# Altium integrated library TI Power Management Power Modules.IntLib: 831 symbols (part 41 of 44)
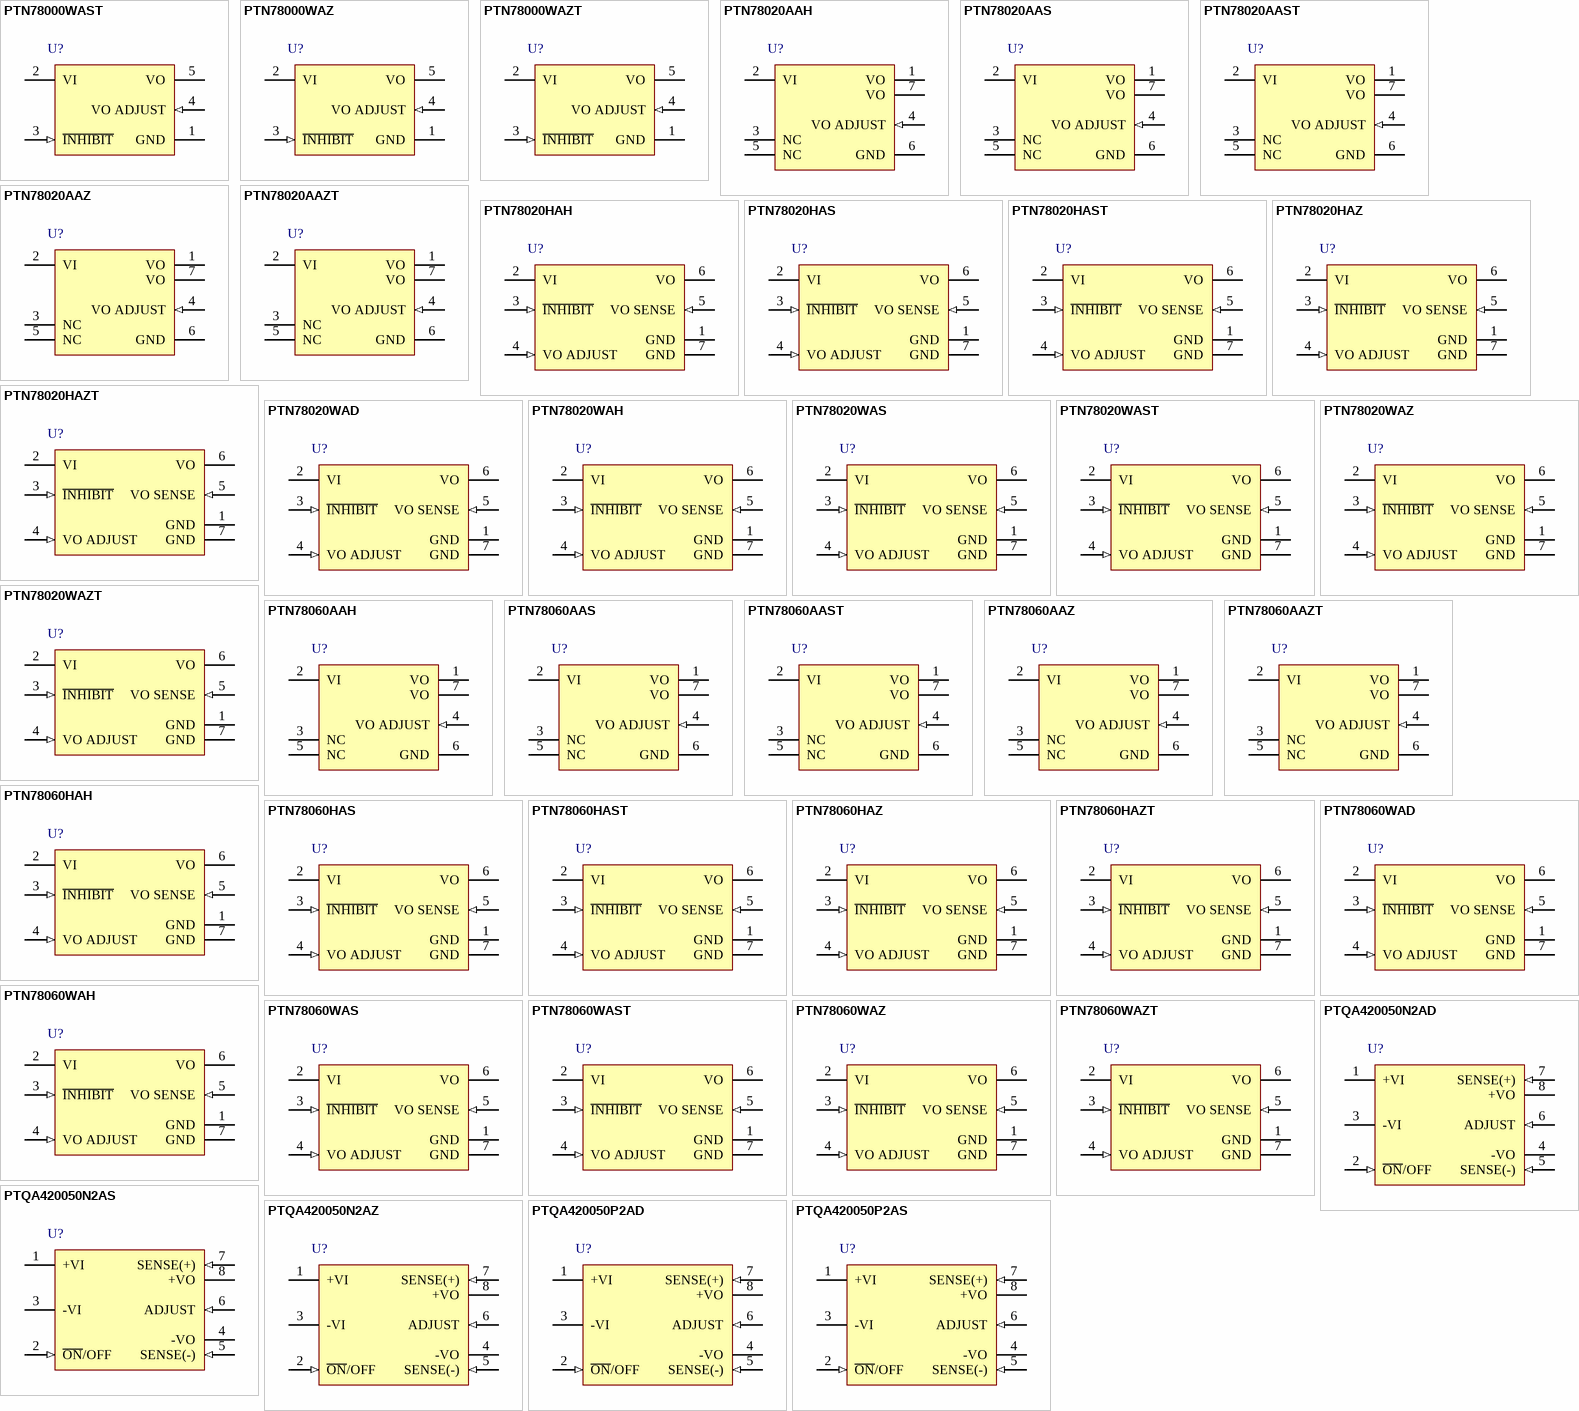
[diagram p63: symbols PTN78000WAST to PTQA420050P2AS]

## PTN78060AAZ
designator U?
3 A, Wide Input Non-Isolated, Wide Negative Output Adjust Module, -40 to 85 degC, 7-pin Module (EUY7), Pb-Free (RoHS); Manufacturer: Texas Instruments; PartNumber: PTN78060AAZ; Iout(Max)(A): 3; Regulated Outputs(#): 1; SubFamily: Non-Isolated POL; Vin(Max)(V): 29; Vin(Min)(V): 9; VO Adjustable: TRUE; Vout(Max)(V): -3; Vout(Min)(V): -15; DatasheetVersion: SLTS245B; PackageVersion: 4205249-2/B; PackageReference: EUY7; PackageDescription: 7-Pin Plastic Special Shape, Body 15.75 x 25.27 mm; Supplier 1: Digi-Key; Supplier Part Number 1: 296-20520-ND; Supplier 2: Farnell; Supplier Part Number 2: 1109707; Supplier 3: Newark; Supplier Part Number 3: 92K8253; Supplier 4: Newark; Supplier Part Number 4: 28K3826; Supplier 5: Mouser; Supplier Part Number 5: 595-PTN78060AAZ; Eco-Plan: Pb-Free (RoHS); Mounting Technology: Surface Mount; ComponentLink1Description: Manufacturer URL; ComponentLink1URL: http://www.ti.com/; ComponentLink2Description: Datasheet; ComponentLink2URL: http://www.ti.com/general/docs/lit/getliterature.tsp?genericPartNumber=PTN78060A&fileType=pdf; ComponentLink3Description: Package Specification; ComponentLink3URL: http://www.ti.com/lit/ml/mpds188/mpds188.pdf; ComponentLink4Description: URL Link1; ComponentLink4URL: Samples URL:http://www.ti.com/product/ptn78060a#samples
footprint TI-EUY7_V (Module, 7-Leads, Body 25.27x15.75mm)
pins: 1 VO (power) "The negative output voltage power connection. It is also the reference for the VO Adjust control input. For proper operation, pins 1 and 7 must be connected.", 2 VI (power) "proper operation, pins 1 and 7 must be connected. The positive input voltage power node to the module, which is referenced to common GND.", 3 NC "This pin is active and must be isolated from any electrical connection.", 4 VO ADJUST (in) "A 1% resistor must be connected between pin 4 and pin 7 to set the output voltage of the module lower than -3 V. If left open-circuit, the output voltage defaults to -3 V. The temperature stability of the resistor should be (See Datasheet)", 5 NC "This pin is active and must be isolated from any electrical connection.", 6 GND (power) "The common ground connection for VI and VO power connections.", 7 VO (power) "The negative output voltage power connection. It is also the reference for the VO Adjust control input. For proper operation, pins 1 and 7 must be connected."

## PTN78060AAZT
designator U?
3 A, Wide Input Non-Isolated, Wide Negative Output Adjust Module, -40 to 85 degC, 7-pin Module (EUY7), Pb-Free (RoHS); Manufacturer: Texas Instruments; PartNumber: PTN78060AAZT; Iout(Max)(A): 3; Regulated Outputs(#): 1; SubFamily: Non-Isolated POL; Vin(Max)(V): 29; Vin(Min)(V): 9; VO Adjustable: TRUE; Vout(Max)(V): -3; Vout(Min)(V): -15; DatasheetVersion: SLTS245B; PackageVersion: 4205249-2/B; PackageReference: EUY7; PackageDescription: 7-Pin Plastic Special Shape, Body 15.75 x 25.27 mm; Supplier 1: Digi-Key; Supplier Part Number 1: PTN78060AAZT-ND; Supplier 2: Newark; Supplier Part Number 2: 28K3827; Supplier 3: Mouser; Supplier Part Number 3: 595-PTN78060AAZT; Eco-Plan: Pb-Free (RoHS); Mounting Technology: Surface Mount; ComponentLink1Description: Manufacturer URL; ComponentLink1URL: http://www.ti.com/; ComponentLink2Description: Datasheet; ComponentLink2URL: http://www.ti.com/general/docs/lit/getliterature.tsp?genericPartNumber=PTN78060A&fileType=pdf; ComponentLink3Description: Package Specification; ComponentLink3URL: http://www.ti.com/lit/ml/mpds188/mpds188.pdf; ComponentLink4Description: URL Link1; ComponentLink4URL: Samples URL:http://www.ti.com/product/ptn78060a#samples
footprint TI-EUY7_V (Module, 7-Leads, Body 25.27x15.75mm)
pins: 1 VO (power) "The negative output voltage power connection. It is also the reference for the VO Adjust control input. For proper operation, pins 1 and 7 must be connected.", 2 VI (power) "proper operation, pins 1 and 7 must be connected. The positive input voltage power node to the module, which is referenced to common GND.", 3 NC "This pin is active and must be isolated from any electrical connection.", 4 VO ADJUST (in) "A 1% resistor must be connected between pin 4 and pin 7 to set the output voltage of the module lower than -3 V. If left open-circuit, the output voltage defaults to -3 V. The temperature stability of the resistor should be (See Datasheet)", 5 NC "This pin is active and must be isolated from any electrical connection.", 6 GND (power) "The common ground connection for VI and VO power connections.", 7 VO (power) "The negative output voltage power connection. It is also the reference for the VO Adjust control input. For proper operation, pins 1 and 7 must be connected."

## PTN78060HAH
designator U?
3 A, Wide Input Non-Isolated, Wide Output Adjust Module, -40 to 85 degC, 7-pin Module (EUW7), Pb-Free (RoHS); Manufacturer: Texas Instruments; PartNumber: PTN78060HAH; Iout(Max)(A): 3; Regulated Outputs(#): 1; SubFamily: Non-Isolated POL; Vin(Max)(V): 36; Vin(Min)(V): 15; VO Adjustable: TRUE; Vout(Max)(V): 22; Vout(Min)(V): 11.85; DatasheetVersion: SLTS229B; PackageVersion: 4205248-2/B; PackageReference: EUW7; PackageDescription: 7-Pin Plastic Special Shape, Body 15.75 x 25.27 mm; Supplier 1: Digi-Key; Supplier Part Number 1: 296-20521-ND; Supplier 2: Farnell; Supplier Part Number 2: 2114050; Supplier 3: Newark; Supplier Part Number 3: 33K5377; Supplier 4: Mouser; Supplier Part Number 4: 595-PTN78060HAH; Eco-Plan: Pb-Free (RoHS); Mounting Technology: Through Hole; ComponentLink1Description: Manufacturer URL; ComponentLink1URL: http://www.ti.com/; ComponentLink2Description: Datasheet; ComponentLink2URL: http://www.ti.com/general/docs/lit/getliterature.tsp?genericPartNumber=PTN78060H&fileType=pdf; ComponentLink3Description: Package Specification; ComponentLink3URL: http://www.ti.com/litv/pdf/mpds187; ComponentLink4Description: URL Link1; ComponentLink4URL: Samples URL:http://www.ti.com/product/ptn78060h#samples
footprint TI-EUW7_V (Module, 7-Leads, Body 25.27x15.75mm)
pins: 1 GND (power) "This is the common ground connection for the VI and VO power connections. It is also the 0-VDC reference for the Inhibit and VO Adjust control inputs.", 2 VI (power) "The positive input voltage power node to the module, which is referenced to common GND.", 3 ~{INHIBIT} (in) "The Inhibit pin is an open-collector/drain active-low input that is referenced to GND. Applying a low-level ground signal to this input disables the module's output and turns off the output voltage. When the Inhibit control (See Datasheet)", 4 VO ADJUST (in) "A 1% resistor must be connected between this pin and GND (pin 7) to set the output voltage. If left V open-circuit, the output voltage is set to a default value. The temperature stability of the resistor should be 100 (See Datasheet)", 5 VO SENSE (in) "The sense input allows the regulation circuit to compensate for voltage drop between the module and the load. For optimum voltage accuracy, VO Sense should be connected to VO. If the sense feature is not used, this pin may (See Datasheet)", 6 VO (power) "The regulated positive power output with respect to the GND node.", 7 GND (power) "This is the common ground connection for the VI and VO power connections. It is also the 0-VDC reference for the Inhibit and VO Adjust control inputs."

## PTN78060HAS
designator U?
3 A, Wide Input Non-Isolated, Wide Output Adjust Module, -40 to 85 degC, 7-pin Module (EUY7); Manufacturer: Texas Instruments; PartNumber: PTN78060HAS; Eco-Plan: TBD; Iout(Max)(A): 3; Regulated Outputs(#): 1; SubFamily: Non-Isolated POL; Vin(Max)(V): 36; Vin(Min)(V): 15; VO Adjustable: TRUE; Vout(Max)(V): 22; Vout(Min)(V): 11.85; DatasheetVersion: SLTS229B; PackageVersion: 4205249-2/B; PackageReference: EUY7; PackageDescription: 7-Pin Plastic Special Shape, Body 15.75 x 25.27 mm; Supplier 1: Digi-Key; Supplier Part Number 1: 296-20522-ND; Supplier 2: Newark; Supplier Part Number 2: 33K5378; Supplier 3: Mouser; Supplier Part Number 3: 595-PTN78060HAS; Mounting Technology: Surface Mount; ComponentLink1Description: Manufacturer URL; ComponentLink1URL: http://www.ti.com/; ComponentLink2Description: Datasheet; ComponentLink2URL: http://www.ti.com/general/docs/lit/getliterature.tsp?genericPartNumber=PTN78060H&fileType=pdf; ComponentLink3Description: Package Specification; ComponentLink3URL: http://www.ti.com/lit/ml/mpds188/mpds188.pdf; ComponentLink4Description: URL Link1; ComponentLink4URL: Samples URL:http://www.ti.com/product/ptn78060h#samples
footprint TI-EUY7_V (Module, 7-Leads, Body 25.27x15.75mm)
pins: 1 GND (power) "This is the common ground connection for the VI and VO power connections. It is also the 0-VDC reference for the Inhibit and VO Adjust control inputs.", 2 VI (power) "The positive input voltage power node to the module, which is referenced to common GND.", 3 ~{INHIBIT} (in) "The Inhibit pin is an open-collector/drain active-low input that is referenced to GND. Applying a low-level ground signal to this input disables the module's output and turns off the output voltage. When the Inhibit control (See Datasheet)", 4 VO ADJUST (in) "A 1% resistor must be connected between this pin and GND (pin 7) to set the output voltage. If left V open-circuit, the output voltage is set to a default value. The temperature stability of the resistor should be 100 (See Datasheet)", 5 VO SENSE (in) "The sense input allows the regulation circuit to compensate for voltage drop between the module and the load. For optimum voltage accuracy, VO Sense should be connected to VO. If the sense feature is not used, this pin may (See Datasheet)", 6 VO (power) "The regulated positive power output with respect to the GND node.", 7 GND (power) "This is the common ground connection for the VI and VO power connections. It is also the 0-VDC reference for the Inhibit and VO Adjust control inputs."

## PTN78060HAST
designator U?
3 A, Wide Input Non-Isolated, Wide Output Adjust Module, -40 to 85 degC, 7-pin Module (EUY7); Manufacturer: Texas Instruments; PartNumber: PTN78060HAST; Eco-Plan: TBD; Iout(Max)(A): 3; Regulated Outputs(#): 1; SubFamily: Non-Isolated POL; Vin(Max)(V): 36; Vin(Min)(V): 15; VO Adjustable: TRUE; Vout(Max)(V): 22; Vout(Min)(V): 11.85; DatasheetVersion: SLTS229B; PackageVersion: 4205249-2/B; PackageReference: EUY7; PackageDescription: 7-Pin Plastic Special Shape, Body 15.75 x 25.27 mm; Supplier 1: Digi-Key; Supplier Part Number 1: PTN78060HAST-ND; Supplier 2: Mouser; Supplier Part Number 2: 595-PTN78060HAST; Mounting Technology: Surface Mount; ComponentLink1Description: Manufacturer URL; ComponentLink1URL: http://www.ti.com/; ComponentLink2Description: Datasheet; ComponentLink2URL: http://www.ti.com/general/docs/lit/getliterature.tsp?genericPartNumber=PTN78060H&fileType=pdf; ComponentLink3Description: Package Specification; ComponentLink3URL: http://www.ti.com/lit/ml/mpds188/mpds188.pdf; ComponentLink4Description: URL Link1; ComponentLink4URL: Samples URL:http://www.ti.com/product/ptn78060h#samples
footprint TI-EUY7_V (Module, 7-Leads, Body 25.27x15.75mm)
pins: 1 GND (power) "This is the common ground connection for the VI and VO power connections. It is also the 0-VDC reference for the Inhibit and VO Adjust control inputs.", 2 VI (power) "The positive input voltage power node to the module, which is referenced to common GND.", 3 ~{INHIBIT} (in) "The Inhibit pin is an open-collector/drain active-low input that is referenced to GND. Applying a low-level ground signal to this input disables the module's output and turns off the output voltage. When the Inhibit control (See Datasheet)", 4 VO ADJUST (in) "A 1% resistor must be connected between this pin and GND (pin 7) to set the output voltage. If left V open-circuit, the output voltage is set to a default value. The temperature stability of the resistor should be 100 (See Datasheet)", 5 VO SENSE (in) "The sense input allows the regulation circuit to compensate for voltage drop between the module and the load. For optimum voltage accuracy, VO Sense should be connected to VO. If the sense feature is not used, this pin may (See Datasheet)", 6 VO (power) "The regulated positive power output with respect to the GND node.", 7 GND (power) "This is the common ground connection for the VI and VO power connections. It is also the 0-VDC reference for the Inhibit and VO Adjust control inputs."

## PTN78060HAZ
designator U?
3 A, Wide Input Non-Isolated, Wide Output Adjust Module, -40 to 85 degC, 7-pin Module (EUY7), Pb-Free (RoHS); Manufacturer: Texas Instruments; PartNumber: PTN78060HAZ; Iout(Max)(A): 3; Regulated Outputs(#): 1; SubFamily: Non-Isolated POL; Vin(Max)(V): 36; Vin(Min)(V): 15; VO Adjustable: TRUE; Vout(Max)(V): 22; Vout(Min)(V): 11.85; DatasheetVersion: SLTS229B; PackageVersion: 4205249-2/B; PackageReference: EUY7; PackageDescription: 7-Pin Plastic Special Shape, Body 15.75 x 25.27 mm; Supplier 1: Digi-Key; Supplier Part Number 1: 296-19759-ND; Supplier 2: Farnell; Supplier Part Number 2: 1109709; Supplier 3: Newark; Supplier Part Number 3: 92K8254; Supplier 4: Newark; Supplier Part Number 4: 33K5380; Supplier 5: Mouser; Supplier Part Number 5: 595-PTN78060HAZ; Eco-Plan: Pb-Free (RoHS); Mounting Technology: Surface Mount; ComponentLink1Description: Manufacturer URL; ComponentLink1URL: http://www.ti.com/; ComponentLink2Description: Datasheet; ComponentLink2URL: http://www.ti.com/general/docs/lit/getliterature.tsp?genericPartNumber=PTN78060H&fileType=pdf; ComponentLink3Description: Package Specification; ComponentLink3URL: http://www.ti.com/lit/ml/mpds188/mpds188.pdf; ComponentLink4Description: URL Link1; ComponentLink4URL: Samples URL:http://www.ti.com/product/ptn78060h#samples
footprint TI-EUY7_V (Module, 7-Leads, Body 25.27x15.75mm)
pins: 1 GND (power) "This is the common ground connection for the VI and VO power connections. It is also the 0-VDC reference for the Inhibit and VO Adjust control inputs.", 2 VI (power) "The positive input voltage power node to the module, which is referenced to common GND.", 3 ~{INHIBIT} (in) "The Inhibit pin is an open-collector/drain active-low input that is referenced to GND. Applying a low-level ground signal to this input disables the module's output and turns off the output voltage. When the Inhibit control (See Datasheet)", 4 VO ADJUST (in) "A 1% resistor must be connected between this pin and GND (pin 7) to set the output voltage. If left V open-circuit, the output voltage is set to a default value. The temperature stability of the resistor should be 100 (See Datasheet)", 5 VO SENSE (in) "The sense input allows the regulation circuit to compensate for voltage drop between the module and the load. For optimum voltage accuracy, VO Sense should be connected to VO. If the sense feature is not used, this pin may (See Datasheet)", 6 VO (power) "The regulated positive power output with respect to the GND node.", 7 GND (power) "This is the common ground connection for the VI and VO power connections. It is also the 0-VDC reference for the Inhibit and VO Adjust control inputs."

## PTN78060HAZT
designator U?
3 A, Wide Input Non-Isolated, Wide Output Adjust Module, -40 to 85 degC, 7-pin Module (EUY7), Pb-Free (RoHS); Manufacturer: Texas Instruments; PartNumber: PTN78060HAZT; Iout(Max)(A): 3; Regulated Outputs(#): 1; SubFamily: Non-Isolated POL; Vin(Max)(V): 36; Vin(Min)(V): 15; VO Adjustable: TRUE; Vout(Max)(V): 22; Vout(Min)(V): 11.85; DatasheetVersion: SLTS229B; PackageVersion: 4205249-2/B; PackageReference: EUY7; PackageDescription: 7-Pin Plastic Special Shape, Body 15.75 x 25.27 mm; Supplier 1: Digi-Key; Supplier Part Number 1: PTN78060HAZT-ND; Supplier 2: Mouser; Supplier Part Number 2: 595-PTN78060HAZT; Eco-Plan: Pb-Free (RoHS); Mounting Technology: Surface Mount; ComponentLink1Description: Manufacturer URL; ComponentLink1URL: http://www.ti.com/; ComponentLink2Description: Datasheet; ComponentLink2URL: http://www.ti.com/general/docs/lit/getliterature.tsp?genericPartNumber=PTN78060H&fileType=pdf; ComponentLink3Description: Package Specification; ComponentLink3URL: http://www.ti.com/lit/ml/mpds188/mpds188.pdf; ComponentLink4Description: URL Link1; ComponentLink4URL: Samples URL:http://www.ti.com/product/ptn78060h#samples
footprint TI-EUY7_V (Module, 7-Leads, Body 25.27x15.75mm)
pins: 1 GND (power) "This is the common ground connection for the VI and VO power connections. It is also the 0-VDC reference for the Inhibit and VO Adjust control inputs.", 2 VI (power) "The positive input voltage power node to the module, which is referenced to common GND.", 3 ~{INHIBIT} (in) "The Inhibit pin is an open-collector/drain active-low input that is referenced to GND. Applying a low-level ground signal to this input disables the module's output and turns off the output voltage. When the Inhibit control (See Datasheet)", 4 VO ADJUST (in) "A 1% resistor must be connected between this pin and GND (pin 7) to set the output voltage. If left V open-circuit, the output voltage is set to a default value. The temperature stability of the resistor should be 100 (See Datasheet)", 5 VO SENSE (in) "The sense input allows the regulation circuit to compensate for voltage drop between the module and the load. For optimum voltage accuracy, VO Sense should be connected to VO. If the sense feature is not used, this pin may (See Datasheet)", 6 VO (power) "The regulated positive power output with respect to the GND node.", 7 GND (power) "This is the common ground connection for the VI and VO power connections. It is also the 0-VDC reference for the Inhibit and VO Adjust control inputs."

## PTN78060WAD
designator U?
3 A, Wide-Input, Adjustable Switching Regulator Module, -40 to 85 degC, 7-pin Module (EUW7), Pb-Free (RoHS); Manufacturer: Texas Instruments; PartNumber: PTN78060WAD; Iout(Max)(A): 3; Regulated Outputs(#): 1; SubFamily: Non-Isolated POL; Vin(Max)(V): 36; Vin(Min)(V): 7; VO Adjustable: TRUE; Vout(Max)(V): 12.6; Vout(Min)(V): 2.5; DatasheetVersion: SLTS229B; PackageVersion: 4205248-2/B; PackageReference: EUW7; PackageDescription: 7-Pin Plastic Special Shape, Body 15.75 x 25.27 mm; Supplier 1: Digi-Key; Supplier Part Number 1: 296-32723-ND; Supplier 2: Farnell; Supplier Part Number 2: 1109703; Supplier 3: Newark; Supplier Part Number 3: 58K6016; Supplier 4: Newark; Supplier Part Number 4: 92K8255; Supplier 5: Mouser; Supplier Part Number 5: 595-PTN78060WAD; Eco-Plan: Pb-Free (RoHS); Mounting Technology: Through Hole; ComponentLink1Description: Manufacturer URL; ComponentLink1URL: http://www.ti.com/; ComponentLink2Description: Datasheet; ComponentLink2URL: http://www.ti.com/general/docs/lit/getliterature.tsp?genericPartNumber=PTN78060W&fileType=pdf; ComponentLink3Description: Package Specification; ComponentLink3URL: http://www.ti.com/litv/pdf/mpds187; ComponentLink4Description: URL Link1; ComponentLink4URL: Samples URL:http://www.ti.com/product/ptn78060w#samples
footprint TI-EUW7_V (Module, 7-Leads, Body 25.27x15.75mm)
pins: 1 GND (power) "This is the common ground connection for the VI and VO power connections. It is also the 0-VDC reference for the Inhibit and VO Adjust control inputs.", 2 VI (power) "The positive input voltage power node to the module, which is referenced to common GND.", 3 ~{INHIBIT} (in) "The Inhibit pin is an open-collector/drain active-low input that is referenced to GND. Applying a low-level ground signal to this input disables the module's output and turns off the output voltage. When the Inhibit control (See Datasheet)", 4 VO ADJUST (in) "A 1% resistor must be connected between this pin and GND (pin 7) to set the output voltage. If left V open-circuit, the output voltage is set to a default value. The temperature stability of the resistor should be 100 (See Datasheet)", 5 VO SENSE (in) "The sense input allows the regulation circuit to compensate for voltage drop between the module and the load. For optimum voltage accuracy, VO Sense should be connected to VO. If the sense feature is not used, this pin may (See Datasheet)", 6 VO (power) "The regulated positive power output with respect to the GND node.", 7 GND (power) "This is the common ground connection for the VI and VO power connections. It is also the 0-VDC reference for the Inhibit and VO Adjust control inputs."

## PTN78060WAH
designator U?
3 A, Wide-Input, Adjustable Switching Regulator Module, -40 to 85 degC, 7-pin Module (EUW7), Pb-Free (RoHS); Manufacturer: Texas Instruments; PartNumber: PTN78060WAH; Iout(Max)(A): 3; Regulated Outputs(#): 1; SubFamily: Non-Isolated POL; Vin(Max)(V): 36; Vin(Min)(V): 7; VO Adjustable: TRUE; Vout(Max)(V): 12.6; Vout(Min)(V): 2.5; DatasheetVersion: SLTS229B; PackageVersion: 4205248-2/B; PackageReference: EUW7; PackageDescription: 7-Pin Plastic Special Shape, Body 15.75 x 25.27 mm; Supplier 1: Digi-Key; Supplier Part Number 1: 296-20523-ND; Supplier 2: Farnell; Supplier Part Number 2: 1295938; Supplier 3: Newark; Supplier Part Number 3: 71J7324; Supplier 4: Mouser; Supplier Part Number 4: 595-PTN78060WAH; Eco-Plan: Pb-Free (RoHS); Mounting Technology: Through Hole; ComponentLink1Description: Manufacturer URL; ComponentLink1URL: http://www.ti.com/; ComponentLink2Description: Datasheet; ComponentLink2URL: http://www.ti.com/general/docs/lit/getliterature.tsp?genericPartNumber=PTN78060W&fileType=pdf; ComponentLink3Description: Package Specification; ComponentLink3URL: http://www.ti.com/litv/pdf/mpds187; ComponentLink4Description: URL Link1; ComponentLink4URL: Samples URL:http://www.ti.com/product/ptn78060w#samples
footprint TI-EUW7_V (Module, 7-Leads, Body 25.27x15.75mm)
pins: 1 GND (power) "This is the common ground connection for the VI and VO power connections. It is also the 0-VDC reference for the Inhibit and VO Adjust control inputs.", 2 VI (power) "The positive input voltage power node to the module, which is referenced to common GND.", 3 ~{INHIBIT} (in) "The Inhibit pin is an open-collector/drain active-low input that is referenced to GND. Applying a low-level ground signal to this input disables the module's output and turns off the output voltage. When the Inhibit control (See Datasheet)", 4 VO ADJUST (in) "A 1% resistor must be connected between this pin and GND (pin 7) to set the output voltage. If left V open-circuit, the output voltage is set to a default value. The temperature stability of the resistor should be 100 (See Datasheet)", 5 VO SENSE (in) "The sense input allows the regulation circuit to compensate for voltage drop between the module and the load. For optimum voltage accuracy, VO Sense should be connected to VO. If the sense feature is not used, this pin may (See Datasheet)", 6 VO (power) "The regulated positive power output with respect to the GND node.", 7 GND (power) "This is the common ground connection for the VI and VO power connections. It is also the 0-VDC reference for the Inhibit and VO Adjust control inputs."

## PTN78060WAS
designator U?
3 A, Wide-Input, Adjustable Switching Regulator Module, -40 to 85 degC, 7-pin Module (EUY7); Manufacturer: Texas Instruments; PartNumber: PTN78060WAS; Eco-Plan: TBD; Iout(Max)(A): 3; Regulated Outputs(#): 1; SubFamily: Non-Isolated POL; Vin(Max)(V): 36; Vin(Min)(V): 7; VO Adjustable: TRUE; Vout(Max)(V): 12.6; Vout(Min)(V): 2.5; DatasheetVersion: SLTS229B; PackageVersion: 4205249-2/B; PackageReference: EUY7; PackageDescription: 7-Pin Plastic Special Shape, Body 15.75 x 25.27 mm; Supplier 1: Digi-Key; Supplier Part Number 1: 296-20524-ND; Supplier 2: Farnell; Supplier Part Number 2: 2114047; Supplier 3: Newark; Supplier Part Number 3: 29M9961; Supplier 4: Mouser; Supplier Part Number 4: 595-PTN78060WAS; Mounting Technology: Surface Mount; ComponentLink1Description: Manufacturer URL; ComponentLink1URL: http://www.ti.com/; ComponentLink2Description: Datasheet; ComponentLink2URL: http://www.ti.com/general/docs/lit/getliterature.tsp?genericPartNumber=PTN78060W&fileType=pdf; ComponentLink3Description: Package Specification; ComponentLink3URL: http://www.ti.com/lit/ml/mpds188/mpds188.pdf; ComponentLink4Description: URL Link1; ComponentLink4URL: Samples URL:http://www.ti.com/product/ptn78060w#samples
footprint TI-EUY7_V (Module, 7-Leads, Body 25.27x15.75mm)
pins: 1 GND (power) "This is the common ground connection for the VI and VO power connections. It is also the 0-VDC reference for the Inhibit and VO Adjust control inputs.", 2 VI (power) "The positive input voltage power node to the module, which is referenced to common GND.", 3 ~{INHIBIT} (in) "The Inhibit pin is an open-collector/drain active-low input that is referenced to GND. Applying a low-level ground signal to this input disables the module's output and turns off the output voltage. When the Inhibit control (See Datasheet)", 4 VO ADJUST (in) "A 1% resistor must be connected between this pin and GND (pin 7) to set the output voltage. If left V open-circuit, the output voltage is set to a default value. The temperature stability of the resistor should be 100 (See Datasheet)", 5 VO SENSE (in) "The sense input allows the regulation circuit to compensate for voltage drop between the module and the load. For optimum voltage accuracy, VO Sense should be connected to VO. If the sense feature is not used, this pin may (See Datasheet)", 6 VO (power) "The regulated positive power output with respect to the GND node.", 7 GND (power) "This is the common ground connection for the VI and VO power connections. It is also the 0-VDC reference for the Inhibit and VO Adjust control inputs."

## PTN78060WAST
designator U?
3 A, Wide-Input, Adjustable Switching Regulator Module, -40 to 85 degC, 7-pin Module (EUY7); Manufacturer: Texas Instruments; PartNumber: PTN78060WAST; Eco-Plan: TBD; Iout(Max)(A): 3; Regulated Outputs(#): 1; SubFamily: Non-Isolated POL; Vin(Max)(V): 36; Vin(Min)(V): 7; VO Adjustable: TRUE; Vout(Max)(V): 12.6; Vout(Min)(V): 2.5; DatasheetVersion: SLTS229B; PackageVersion: 4205249-2/B; PackageReference: EUY7; PackageDescription: 7-Pin Plastic Special Shape, Body 15.75 x 25.27 mm; Supplier 1: Digi-Key; Supplier Part Number 1: PTN78060WAST-ND; Supplier 2: Newark; Supplier Part Number 2: 71J7326; Supplier 3: Mouser; Supplier Part Number 3: 595-PTN78060WAST; Mounting Technology: Surface Mount; ComponentLink1Description: Manufacturer URL; ComponentLink1URL: http://www.ti.com/; ComponentLink2Description: Datasheet; ComponentLink2URL: http://www.ti.com/general/docs/lit/getliterature.tsp?genericPartNumber=PTN78060W&fileType=pdf; ComponentLink3Description: Package Specification; ComponentLink3URL: http://www.ti.com/lit/ml/mpds188/mpds188.pdf; ComponentLink4Description: URL Link1; ComponentLink4URL: Samples URL:http://www.ti.com/product/ptn78060w#samples
footprint TI-EUY7_V (Module, 7-Leads, Body 25.27x15.75mm)
pins: 1 GND (power) "This is the common ground connection for the VI and VO power connections. It is also the 0-VDC reference for the Inhibit and VO Adjust control inputs.", 2 VI (power) "The positive input voltage power node to the module, which is referenced to common GND.", 3 ~{INHIBIT} (in) "The Inhibit pin is an open-collector/drain active-low input that is referenced to GND. Applying a low-level ground signal to this input disables the module's output and turns off the output voltage. When the Inhibit control (See Datasheet)", 4 VO ADJUST (in) "A 1% resistor must be connected between this pin and GND (pin 7) to set the output voltage. If left V open-circuit, the output voltage is set to a default value. The temperature stability of the resistor should be 100 (See Datasheet)", 5 VO SENSE (in) "The sense input allows the regulation circuit to compensate for voltage drop between the module and the load. For optimum voltage accuracy, VO Sense should be connected to VO. If the sense feature is not used, this pin may (See Datasheet)", 6 VO (power) "The regulated positive power output with respect to the GND node.", 7 GND (power) "This is the common ground connection for the VI and VO power connections. It is also the 0-VDC reference for the Inhibit and VO Adjust control inputs."

## PTN78060WAZ
designator U?
3 A, Wide-Input, Adjustable Switching Regulator Module, -40 to 85 degC, 7-pin Module (EUY7), Pb-Free (RoHS); Manufacturer: Texas Instruments; PartNumber: PTN78060WAZ; Iout(Max)(A): 3; Regulated Outputs(#): 1; SubFamily: Non-Isolated POL; Vin(Max)(V): 36; Vin(Min)(V): 7; VO Adjustable: TRUE; Vout(Max)(V): 12.6; Vout(Min)(V): 2.5; DatasheetVersion: SLTS229B; PackageVersion: 4205249-2/B; PackageReference: EUY7; PackageDescription: 7-Pin Plastic Special Shape, Body 15.75 x 25.27 mm; Supplier 1: Digi-Key; Supplier Part Number 1: 296-20525-ND; Supplier 2: Farnell; Supplier Part Number 2: 1109705; Supplier 3: Newark; Supplier Part Number 3: 37K0766; Supplier 4: Newark; Supplier Part Number 4: 92K8256; Supplier 5: Mouser; Supplier Part Number 5: 595-PTN78060WAZ; Eco-Plan: Pb-Free (RoHS); Mounting Technology: Surface Mount; ComponentLink1Description: Manufacturer URL; ComponentLink1URL: http://www.ti.com/; ComponentLink2Description: Datasheet; ComponentLink2URL: http://www.ti.com/general/docs/lit/getliterature.tsp?genericPartNumber=PTN78060W&fileType=pdf; ComponentLink3Description: Package Specification; ComponentLink3URL: http://www.ti.com/lit/ml/mpds188/mpds188.pdf; ComponentLink4Description: URL Link1; ComponentLink4URL: Samples URL:http://www.ti.com/product/ptn78060w#samples
footprint TI-EUY7_V (Module, 7-Leads, Body 25.27x15.75mm)
pins: 1 GND (power) "This is the common ground connection for the VI and VO power connections. It is also the 0-VDC reference for the Inhibit and VO Adjust control inputs.", 2 VI (power) "The positive input voltage power node to the module, which is referenced to common GND.", 3 ~{INHIBIT} (in) "The Inhibit pin is an open-collector/drain active-low input that is referenced to GND. Applying a low-level ground signal to this input disables the module's output and turns off the output voltage. When the Inhibit control (See Datasheet)", 4 VO ADJUST (in) "A 1% resistor must be connected between this pin and GND (pin 7) to set the output voltage. If left V open-circuit, the output voltage is set to a default value. The temperature stability of the resistor should be 100 (See Datasheet)", 5 VO SENSE (in) "The sense input allows the regulation circuit to compensate for voltage drop between the module and the load. For optimum voltage accuracy, VO Sense should be connected to VO. If the sense feature is not used, this pin may (See Datasheet)", 6 VO (power) "The regulated positive power output with respect to the GND node.", 7 GND (power) "This is the common ground connection for the VI and VO power connections. It is also the 0-VDC reference for the Inhibit and VO Adjust control inputs."

## PTN78060WAZT
designator U?
3 A, Wide-Input, Adjustable Switching Regulator Module, -40 to 85 degC, 7-pin Module (EUY7), Pb-Free (RoHS); Manufacturer: Texas Instruments; PartNumber: PTN78060WAZT; Iout(Max)(A): 3; Regulated Outputs(#): 1; SubFamily: Non-Isolated POL; Vin(Max)(V): 36; Vin(Min)(V): 7; VO Adjustable: TRUE; Vout(Max)(V): 12.6; Vout(Min)(V): 2.5; DatasheetVersion: SLTS229B; PackageVersion: 4205249-2/B; PackageReference: EUY7; PackageDescription: 7-Pin Plastic Special Shape, Body 15.75 x 25.27 mm; Supplier 1: Digi-Key; Supplier Part Number 1: 296-26317-2-ND; Supplier 2: Digi-Key; Supplier Part Number 2: 296-26317-1-ND; Supplier 3: Digi-Key; Supplier Part Number 3: 296-26317-6-ND; Supplier 4: Newark; Supplier Part Number 4: 37K0767; Supplier 5: Mouser; Supplier Part Number 5: 595-PTN78060WAZT; Eco-Plan: Pb-Free (RoHS); Mounting Technology: Surface Mount; ComponentLink1Description: Manufacturer URL; ComponentLink1URL: http://www.ti.com/; ComponentLink2Description: Datasheet; ComponentLink2URL: http://www.ti.com/general/docs/lit/getliterature.tsp?genericPartNumber=PTN78060W&fileType=pdf; ComponentLink3Description: Package Specification; ComponentLink3URL: http://www.ti.com/lit/ml/mpds188/mpds188.pdf; ComponentLink4Description: URL Link1; ComponentLink4URL: Samples URL:http://www.ti.com/product/ptn78060w#samples
footprint TI-EUY7_V (Module, 7-Leads, Body 25.27x15.75mm)
pins: 1 GND (power) "This is the common ground connection for the VI and VO power connections. It is also the 0-VDC reference for the Inhibit and VO Adjust control inputs.", 2 VI (power) "The positive input voltage power node to the module, which is referenced to common GND.", 3 ~{INHIBIT} (in) "The Inhibit pin is an open-collector/drain active-low input that is referenced to GND. Applying a low-level ground signal to this input disables the module's output and turns off the output voltage. When the Inhibit control (See Datasheet)", 4 VO ADJUST (in) "A 1% resistor must be connected between this pin and GND (pin 7) to set the output voltage. If left V open-circuit, the output voltage is set to a default value. The temperature stability of the resistor should be 100 (See Datasheet)", 5 VO SENSE (in) "The sense input allows the regulation circuit to compensate for voltage drop between the module and the load. For optimum voltage accuracy, VO Sense should be connected to VO. If the sense feature is not used, this pin may (See Datasheet)", 6 VO (power) "The regulated positive power output with respect to the GND node.", 7 GND (power) "This is the common ground connection for the VI and VO power connections. It is also the 0-VDC reference for the Inhibit and VO Adjust control inputs."

## PTQA420050N2AD
designator U?
100 W, 48 V Input, 5 V Output, Isolated DC-DC Converter, -40 to 85 degC, 8-pin Module (EAP8), Pb-Free (RoHS); Manufacturer: Texas Instruments; PartNumber: PTQA420050N2AD; Iout(Max)(A): 20; Regulated Outputs(#): 1; SubFamily: Standard Brick Module; Vin(Max)(V): 75; Vin(Min)(V): 36; VO Adjustable: TRUE; Vout(Max)(V): 5.5; Vout(Min)(V): 4; DatasheetVersion: SLTS261C; PackageVersion: 4207562/A; PackageReference: EAP8; PackageDescription: 8-Pin Plastic Special Shape, Body 36.83 x 56.39 mm; Supplier 1: Digi-Key; Supplier Part Number 1: 296-21541-ND; Supplier 2: Newark; Supplier Part Number 2: 31M0364; Supplier 3: Mouser; Supplier Part Number 3: 595-PTQA420050N2AD; Eco-Plan: Pb-Free (RoHS); Mounting Technology: Through Hole; ComponentLink1Description: Manufacturer URL; ComponentLink1URL: http://www.ti.com/; ComponentLink2Description: Datasheet; ComponentLink2URL: http://www.ti.com/general/docs/lit/getliterature.tsp?genericPartNumber=PTQA420050&fileType=pdf; ComponentLink3Description: Package Specification; ComponentLink3URL: http://www.ti.com/litv/pdf/mpds241; ComponentLink4Description: URL Link1; ComponentLink4URL: Samples URL:http://www.ti.com/product/ptqa420050#samples
footprint TI-EAP8_V (Module, 8-Leads, Body 56.39x36.83mm)
pins: 1 +VI (power) "The positive input for the module with respect to -VI. When powering the module from a -48-V telecom central office supply, this input is connected to the primary system ground.", 2 ~{ON}/OFF (in) "This input controls the On/Off status of the output voltage. It is either driven low (-VI potential), or left open-circuit. For units identified with the NEN option, applying a logic low to this pin will enable the output. (See Datasheet)", 3 -VI (power) "The negative input supply for the module, and the 0 VDC reference for the Remote On/Off input. When powering the module from a +48-V supply, this input is connected to the 48-V return.", 4 -VO (power) "The negative power output with respect to +VO, which is DC isolated from the input supply pins. This output is normally connected to the secondary circuit common when a positive output voltage is desired.", 5 SENSE(-) (in) "Provides the converter with an output sense capability when used in conjunction with Sense(+) input. For optimum output voltage accuracy this pin should always be connected to -VO.", 6 ADJUST (in) "Allows the output voltage to be trimmed by up or down between +10% and -20% of its nominal value. The adjustment method uses a single external resistor. Connecting the resistor between VO Adjust and -VO adjusts the output (See Datasheet)", 7 SENSE(+) (in) "Provides the converter with an output sense capability to regulate the set-point voltage directly at the load. When used with Sense(-), the regulation circuitry will compensate for voltage drop between the converter and the (See Datasheet)", 8 +VO (power) "The positive power output with respect to -VO, which is DC isolated from the input supply pins. If a negative output voltage is desired, +VO should be connected to the secondary circuit common and the output taken from -VO."

## PTQA420050N2AS
designator U?
100 W, 48 V Input, 5 V Output, Isolated DC-DC Converter, -40 to 85 degC, 8-pin Module (EAQ8); Manufacturer: Texas Instruments; PartNumber: PTQA420050N2AS; Eco-Plan: TBD; Iout(Max)(A): 20; Regulated Outputs(#): 1; SubFamily: Standard Brick Module; Vin(Max)(V): 75; Vin(Min)(V): 36; VO Adjustable: TRUE; Vout(Max)(V): 5.5; Vout(Min)(V): 4; DatasheetVersion: SLTS261C; PackageVersion: 4207563/A; PackageReference: EAQ8; PackageDescription: 8-Pin Plastic Special Shape, Body 36.83 x 56.39 mm; Supplier 1: Digi-Key; Supplier Part Number 1: 296-24196-ND; Supplier 2: Mouser; Supplier Part Number 2: 595-PTQA420050N2AS; Mounting Technology: Surface Mount; ComponentLink1Description: Manufacturer URL; ComponentLink1URL: http://www.ti.com/; ComponentLink2Description: Datasheet; ComponentLink2URL: http://www.ti.com/general/docs/lit/getliterature.tsp?genericPartNumber=PTQA420050&fileType=pdf; ComponentLink3Description: Package Specification; ComponentLink3URL: http://www.ti.com/litv/pdf/mpds242; ComponentLink4Description: URL Link1; ComponentLink4URL: Samples URL:http://www.ti.com/product/ptqa420050#samples
footprint TI-EAQ8_V (Module, 8-Leads, Body 56.39x36.83mm)
pins: 1 +VI (power) "The positive input for the module with respect to -VI. When powering the module from a -48-V telecom central office supply, this input is connected to the primary system ground.", 2 ~{ON}/OFF (in) "This input controls the On/Off status of the output voltage. It is either driven low (-VI potential), or left open-circuit. For units identified with the NEN option, applying a logic low to this pin will enable the output. (See Datasheet)", 3 -VI (power) "The negative input supply for the module, and the 0 VDC reference for the Remote On/Off input. When powering the module from a +48-V supply, this input is connected to the 48-V return.", 4 -VO (power) "The negative power output with respect to +VO, which is DC isolated from the input supply pins. This output is normally connected to the secondary circuit common when a positive output voltage is desired.", 5 SENSE(-) (in) "Provides the converter with an output sense capability when used in conjunction with Sense(+) input. For optimum output voltage accuracy this pin should always be connected to -VO.", 6 ADJUST (in) "Allows the output voltage to be trimmed by up or down between +10% and -20% of its nominal value. The adjustment method uses a single external resistor. Connecting the resistor between VO Adjust and -VO adjusts the output (See Datasheet)", 7 SENSE(+) (in) "Provides the converter with an output sense capability to regulate the set-point voltage directly at the load. When used with Sense(-), the regulation circuitry will compensate for voltage drop between the converter and the (See Datasheet)", 8 +VO (power) "The positive power output with respect to -VO, which is DC isolated from the input supply pins. If a negative output voltage is desired, +VO should be connected to the secondary circuit common and the output taken from -VO."

## PTQA420050N2AZ
designator U?
100 W, 48 V Input, 5 V Output, Isolated DC-DC Converter, -40 to 85 degC, 8-pin Module (BAQ8), Pb-Free (RoHS); Manufacturer: Texas Instruments; PartNumber: PTQA420050N2AZ; Iout(Max)(A): 20; Regulated Outputs(#): 1; SubFamily: Standard Brick Module; Vin(Max)(V): 75; Vin(Min)(V): 36; VO Adjustable: TRUE; Vout(Max)(V): 5.5; Vout(Min)(V): 4; DatasheetVersion: SLTS261C; PackageVersion: 4207714/A; PackageReference: BAQ8; PackageDescription: 8-Pin Plastic Special Shape, Body 36.83 x 56.39 mm; Supplier 1: Digi-Key; Supplier Part Number 1: 296-24197-ND; Supplier 2: Mouser; Supplier Part Number 2: 595-PTQA420050N2AZ; Eco-Plan: Pb-Free (RoHS); Mounting Technology: Surface Mount; ComponentLink1Description: Manufacturer URL; ComponentLink1URL: http://www.ti.com/; ComponentLink2Description: Datasheet; ComponentLink2URL: http://www.ti.com/general/docs/lit/getliterature.tsp?genericPartNumber=PTQA420050&fileType=pdf; ComponentLink3Description: Package Specification; ComponentLink3URL: http://www.ti.com/lit/ml/mpds263/mpds263.pdf; ComponentLink4Description: URL Link1; ComponentLink4URL: Samples URL:http://www.ti.com/product/ptqa420050#samples
footprint TI-BAQ8_V (Moudle, 8-Leads, Body 56.39x36.83mm, Pitch 3.81mm)
pins: 1 +VI (power) "The positive input for the module with respect to -VI. When powering the module from a -48-V telecom central office supply, this input is connected to the primary system ground.", 2 ~{ON}/OFF (in) "This input controls the On/Off status of the output voltage. It is either driven low (-VI potential), or left open-circuit. For units identified with the NEN option, applying a logic low to this pin will enable the output. (See Datasheet)", 3 -VI (power) "The negative input supply for the module, and the 0 VDC reference for the Remote On/Off input. When powering the module from a +48-V supply, this input is connected to the 48-V return.", 4 -VO (power) "The negative power output with respect to +VO, which is DC isolated from the input supply pins. This output is normally connected to the secondary circuit common when a positive output voltage is desired.", 5 SENSE(-) (in) "Provides the converter with an output sense capability when used in conjunction with Sense(+) input. For optimum output voltage accuracy this pin should always be connected to -VO.", 6 ADJUST (in) "Allows the output voltage to be trimmed by up or down between +10% and -20% of its nominal value. The adjustment method uses a single external resistor. Connecting the resistor between VO Adjust and -VO adjusts the output (See Datasheet)", 7 SENSE(+) (in) "Provides the converter with an output sense capability to regulate the set-point voltage directly at the load. When used with Sense(-), the regulation circuitry will compensate for voltage drop between the converter and the (See Datasheet)", 8 +VO (power) "The positive power output with respect to -VO, which is DC isolated from the input supply pins. If a negative output voltage is desired, +VO should be connected to the secondary circuit common and the output taken from -VO."

## PTQA420050P2AD
designator U?
100 W, 48 V Input, 5 V Output, Isolated DC-DC Converter, -40 to 85 degC, 8-pin Module (EAP8), Pb-Free (RoHS); Manufacturer: Texas Instruments; PartNumber: PTQA420050P2AD; Iout(Max)(A): 20; Regulated Outputs(#): 1; SubFamily: Standard Brick Module; Vin(Max)(V): 75; Vin(Min)(V): 36; VO Adjustable: TRUE; Vout(Max)(V): 5.5; Vout(Min)(V): 4; DatasheetVersion: SLTS261C; PackageVersion: 4207562/A; PackageReference: EAP8; PackageDescription: 8-Pin Plastic Special Shape, Body 36.83 x 56.39 mm; Supplier 1: Digi-Key; Supplier Part Number 1: 296-21542-ND; Supplier 2: Newark; Supplier Part Number 2: 31M0365; Supplier 3: Mouser; Supplier Part Number 3: 595-PTQA420050P2AD; Eco-Plan: Pb-Free (RoHS); Mounting Technology: Through Hole; ComponentLink1Description: Manufacturer URL; ComponentLink1URL: http://www.ti.com/; ComponentLink2Description: Datasheet; ComponentLink2URL: http://www.ti.com/general/docs/lit/getliterature.tsp?genericPartNumber=PTQA420050&fileType=pdf; ComponentLink3Description: Package Specification; ComponentLink3URL: http://www.ti.com/litv/pdf/mpds241; ComponentLink4Description: URL Link1; ComponentLink4URL: Samples URL:http://www.ti.com/product/ptqa420050#samples
footprint TI-EAP8_V (Module, 8-Leads, Body 56.39x36.83mm)
pins: 1 +VI (power) "The positive input for the module with respect to -VI. When powering the module from a -48-V telecom central office supply, this input is connected to the primary system ground.", 2 ~{ON}/OFF (in) "This input controls the On/Off status of the output voltage. It is either driven low (-VI potential), or left open-circuit. For units identified with the NEN option, applying a logic low to this pin will enable the output. (See Datasheet)", 3 -VI (power) "The negative input supply for the module, and the 0 VDC reference for the Remote On/Off input. When powering the module from a +48-V supply, this input is connected to the 48-V return.", 4 -VO (power) "The negative power output with respect to +VO, which is DC isolated from the input supply pins. This output is normally connected to the secondary circuit common when a positive output voltage is desired.", 5 SENSE(-) (in) "Provides the converter with an output sense capability when used in conjunction with Sense(+) input. For optimum output voltage accuracy this pin should always be connected to -VO.", 6 ADJUST (in) "Allows the output voltage to be trimmed by up or down between +10% and -20% of its nominal value. The adjustment method uses a single external resistor. Connecting the resistor between VO Adjust and -VO adjusts the output (See Datasheet)", 7 SENSE(+) (in) "Provides the converter with an output sense capability to regulate the set-point voltage directly at the load. When used with Sense(-), the regulation circuitry will compensate for voltage drop between the converter and the (See Datasheet)", 8 +VO (power) "The positive power output with respect to -VO, which is DC isolated from the input supply pins. If a negative output voltage is desired, +VO should be connected to the secondary circuit common and the output taken from -VO."

## PTQA420050P2AS
designator U?
100 W, 48 V Input, 5 V Output, Isolated DC-DC Converter, -40 to 85 degC, 8-pin Module (EAQ8); Manufacturer: Texas Instruments; PartNumber: PTQA420050P2AS; Eco-Plan: TBD; Iout(Max)(A): 20; Regulated Outputs(#): 1; SubFamily: Standard Brick Module; Vin(Max)(V): 75; Vin(Min)(V): 36; VO Adjustable: TRUE; Vout(Max)(V): 5.5; Vout(Min)(V): 4; DatasheetVersion: SLTS261C; PackageVersion: 4207563/A; PackageReference: EAQ8; PackageDescription: 8-Pin Plastic Special Shape, Body 36.83 x 56.39 mm; Supplier 1: Digi-Key; Supplier Part Number 1: 296-24307-ND; Supplier 2: Mouser; Supplier Part Number 2: 595-PTQA420050P2AS; Mounting Technology: Surface Mount; ComponentLink1Description: Manufacturer URL; ComponentLink1URL: http://www.ti.com/; ComponentLink2Description: Datasheet; ComponentLink2URL: http://www.ti.com/general/docs/lit/getliterature.tsp?genericPartNumber=PTQA420050&fileType=pdf; ComponentLink3Description: Package Specification; ComponentLink3URL: http://www.ti.com/litv/pdf/mpds242; ComponentLink4Description: URL Link1; ComponentLink4URL: Samples URL:http://www.ti.com/product/ptqa420050#samples
footprint TI-EAQ8_V (Module, 8-Leads, Body 56.39x36.83mm)
pins: 1 +VI (power) "The positive input for the module with respect to -VI. When powering the module from a -48-V telecom central office supply, this input is connected to the primary system ground.", 2 ~{ON}/OFF (in) "This input controls the On/Off status of the output voltage. It is either driven low (-VI potential), or left open-circuit. For units identified with the NEN option, applying a logic low to this pin will enable the output. (See Datasheet)", 3 -VI (power) "The negative input supply for the module, and the 0 VDC reference for the Remote On/Off input. When powering the module from a +48-V supply, this input is connected to the 48-V return.", 4 -VO (power) "The negative power output with respect to +VO, which is DC isolated from the input supply pins. This output is normally connected to the secondary circuit common when a positive output voltage is desired.", 5 SENSE(-) (in) "Provides the converter with an output sense capability when used in conjunction with Sense(+) input. For optimum output voltage accuracy this pin should always be connected to -VO.", 6 ADJUST (in) "Allows the output voltage to be trimmed by up or down between +10% and -20% of its nominal value. The adjustment method uses a single external resistor. Connecting the resistor between VO Adjust and -VO adjusts the output (See Datasheet)", 7 SENSE(+) (in) "Provides the converter with an output sense capability to regulate the set-point voltage directly at the load. When used with Sense(-), the regulation circuitry will compensate for voltage drop between the converter and the (See Datasheet)", 8 +VO (power) "The positive power output with respect to -VO, which is DC isolated from the input supply pins. If a negative output voltage is desired, +VO should be connected to the secondary circuit common and the output taken from -VO."

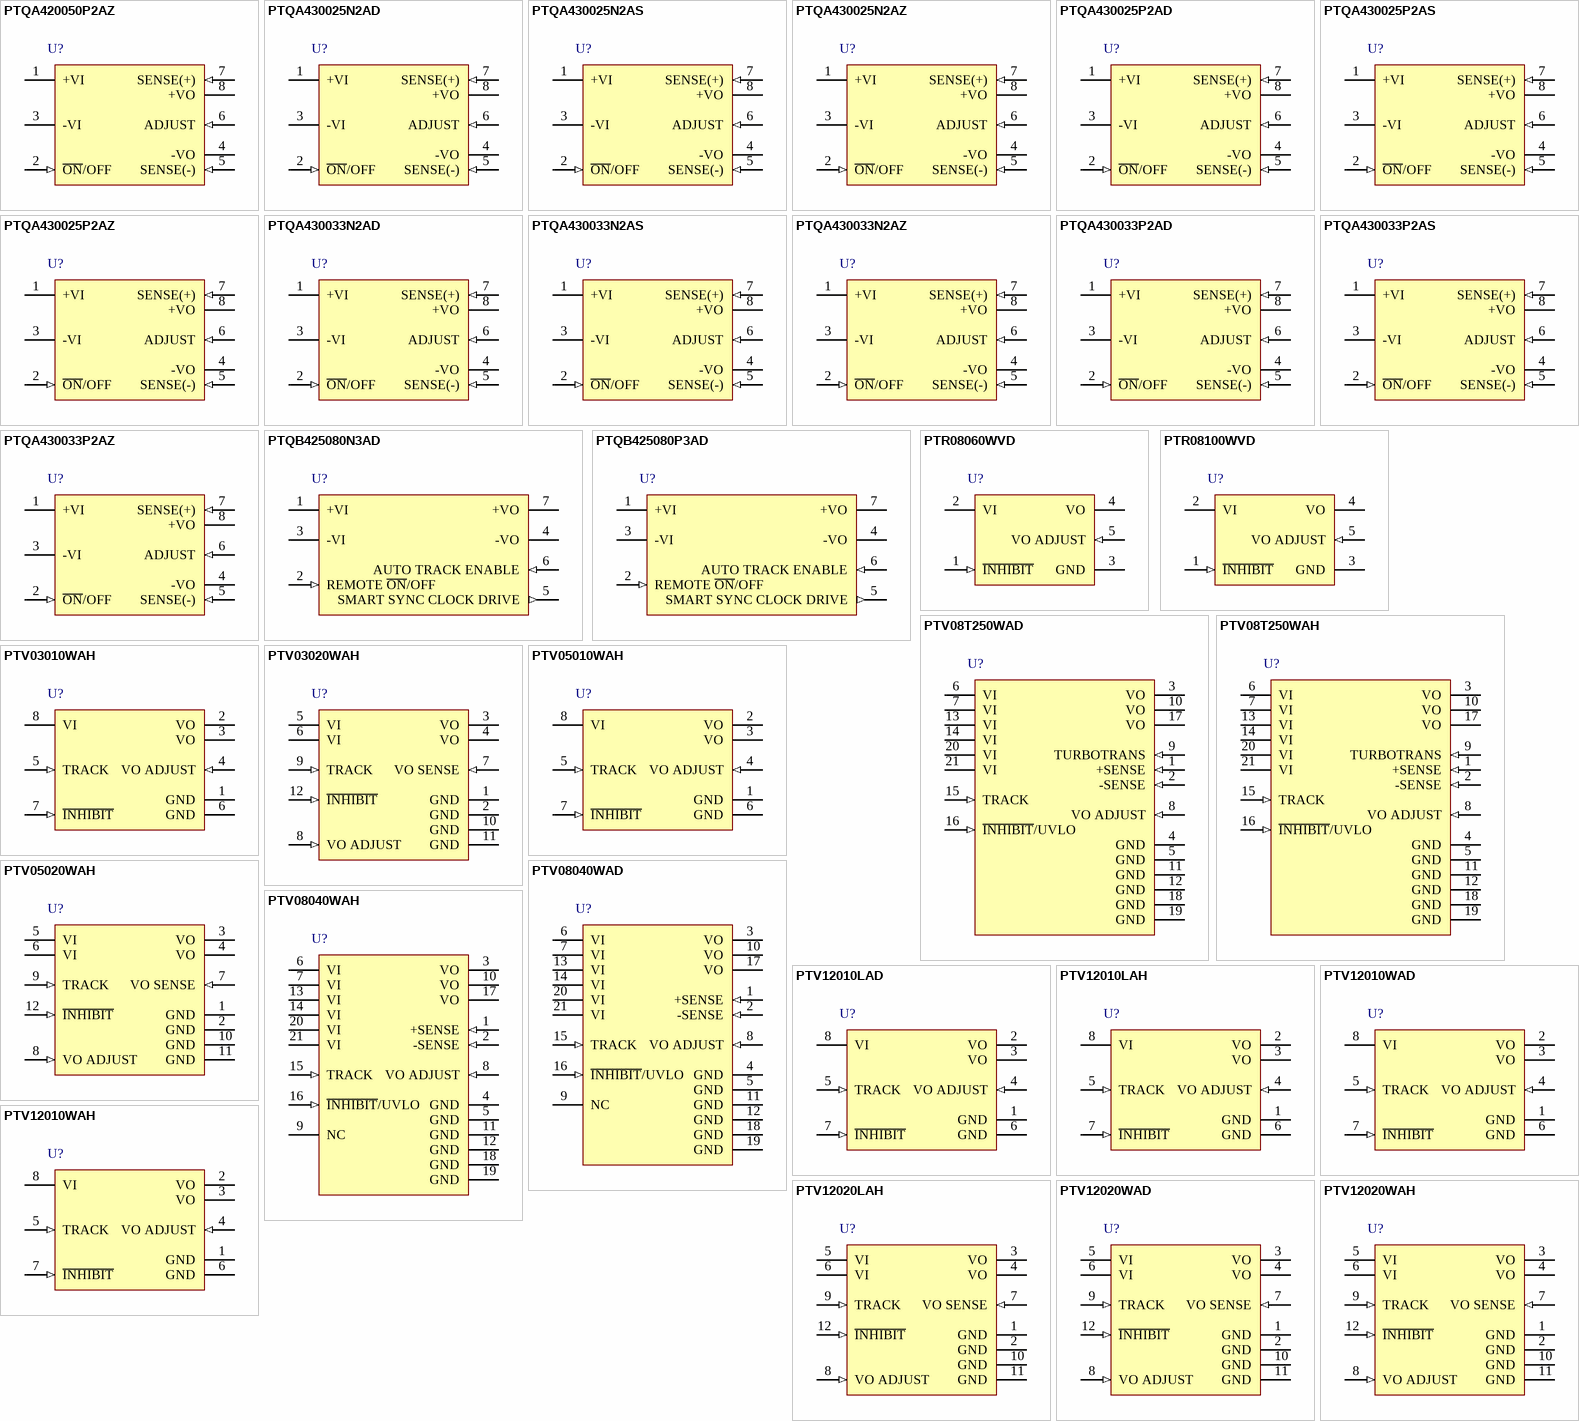
[diagram p23: symbols PTQA420050P2AZ to PTV12020WAH]